# EAGLE library part INA250 (library vtgs)
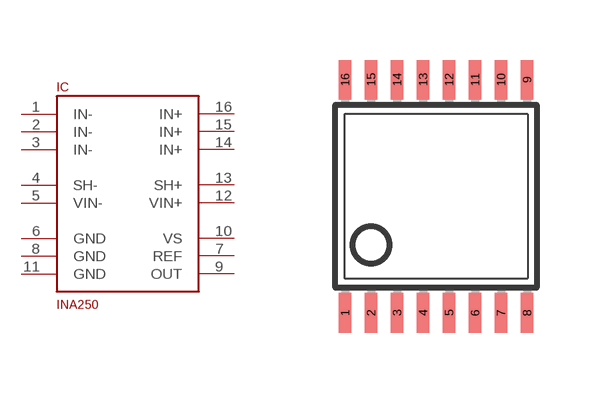
[diagram p2: symbol with the pads of TSSOP16; footprint TSSOP16]

Designator prefix IC

## INA250  [TSSOP16]
1  IN-
2  IN-
3  IN-
4  SH-
5  VIN-
6  GND
7  REF
8  GND
9  OUT
10  VS
11  GND
12  VIN+
13  SH+
14  IN+
15  IN+
16  IN+

## Footprint TSSOP16 (pad centres in mm)
Thin Shrink Small Outline Plastic 16
smd 0.305 x 0.991: 1 -2.275,-2.918; 2 -1.625,-2.918; 3 -0.975,-2.918; 4 -0.325,-2.918; 5 0.325,-2.918; 6 0.975,-2.918; 7 1.625,-2.918; 8 2.275,-2.918; 9 2.275,2.918; 10 1.625,2.918; 11 0.975,2.918; 12 0.325,2.918; 13 -0.325,2.918; 14 -0.975,2.918; 15 -1.625,2.918; 16 -2.275,2.918